# Altium integrated library TI_Logic_Specialty_Logic.IntLib: 2504 symbols (part 13 of 81)
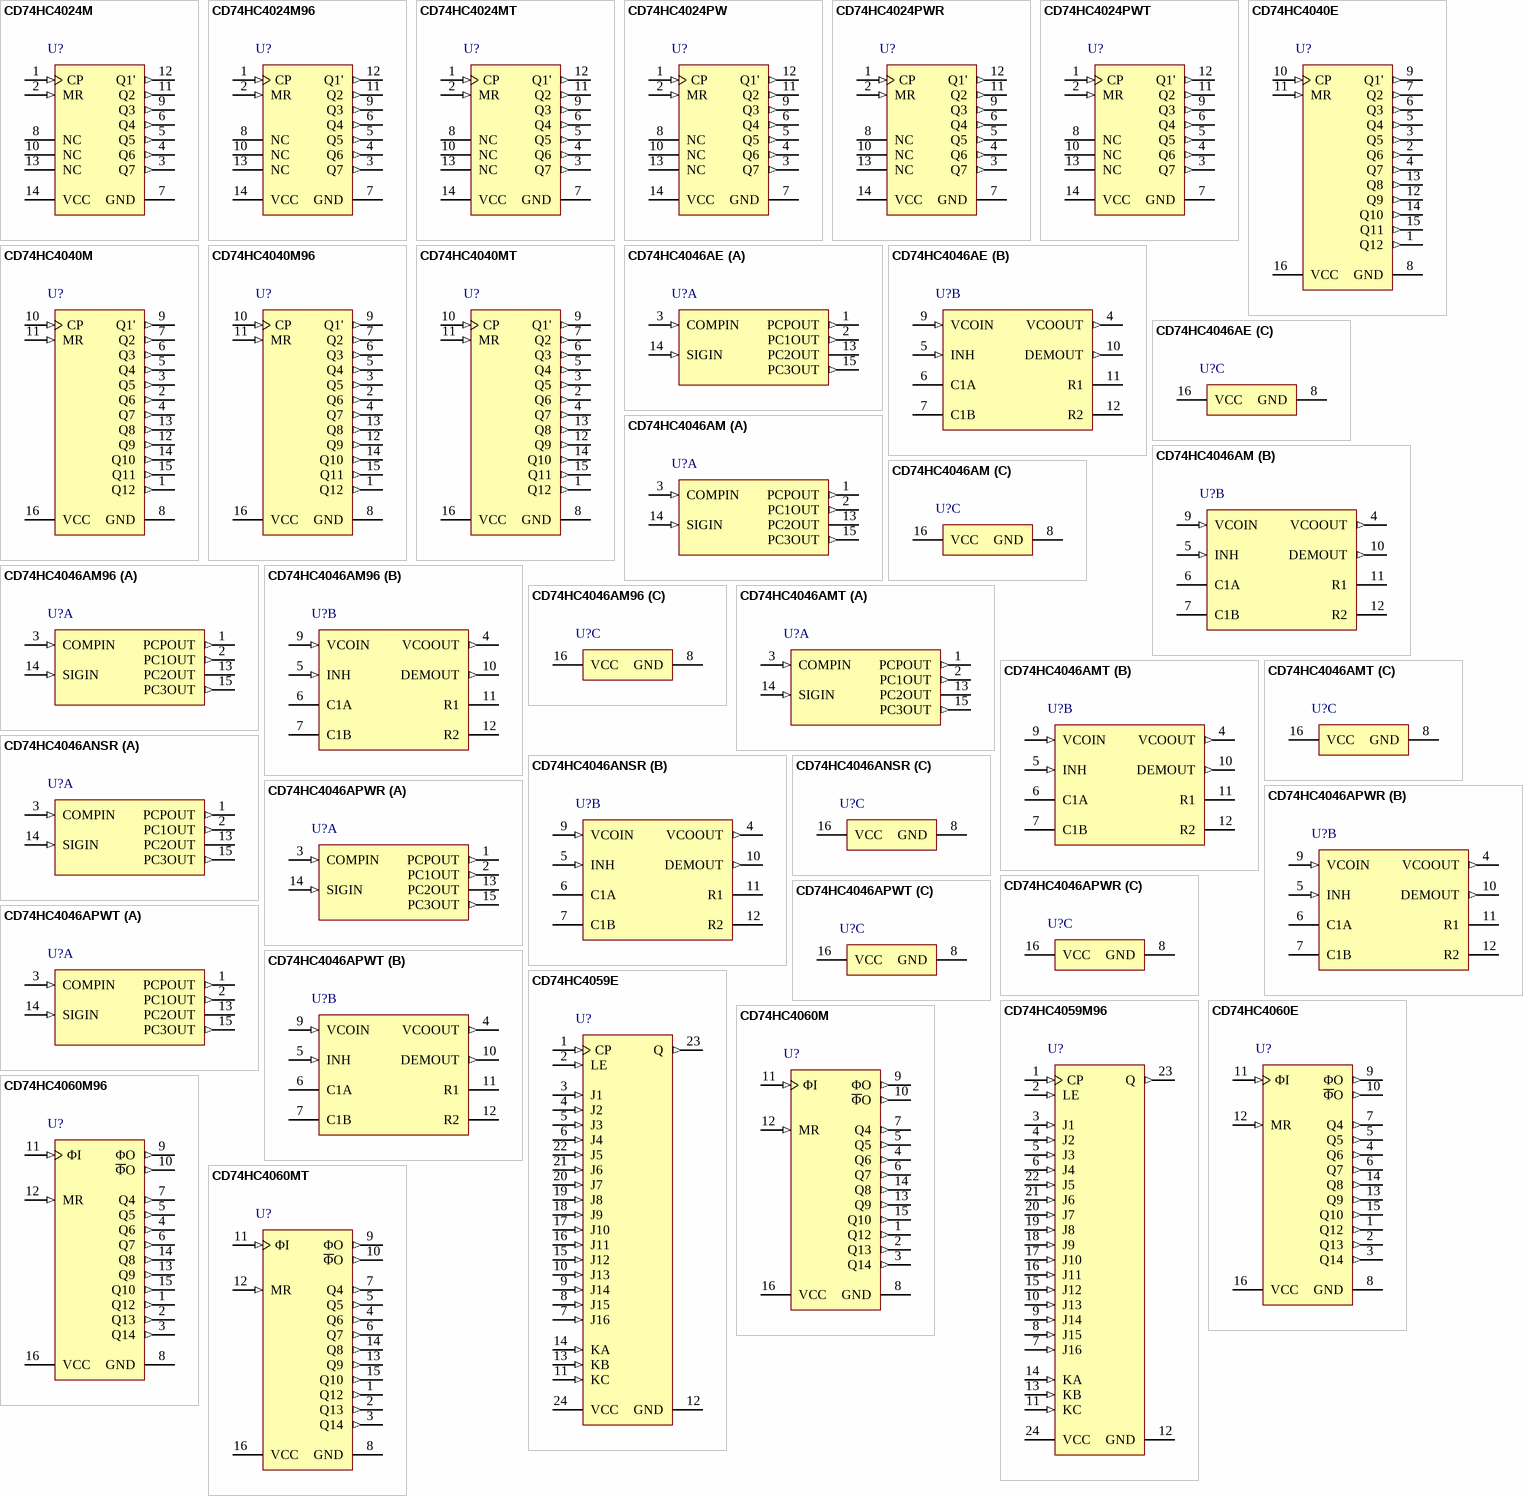
[diagram p116: symbols CD74HC4024M to CD74HC4060MT]

## CD74HC4046ANSR
designator U?
High Speed CMOS Logic Phase-Locked-Loop with VCO, NS0016A, LARGE T&R; Generic Part Number: CD74HC4046A; Manufacturer: Texas Instruments; PartNumber: CD74HC4046ANSR; VCC(Min)(V): 2; VCC(Max)(V): 6; ICC @ Nom Voltage(Max)(mA): 0.08; Bits(#): 1; F @ Nom Voltage(Max)(Mhz): 70; Rating: Catalog; Technology Family: HC; Voltage(Nom)(V): 3.3,5; Schmitt Trigger: No; Output Drive (IOL/IOH)(Max)(mA): 5.2/-5.2; tpd @ Nom Voltage(Max)(ns): 64; DatasheetVersion: SCHS204J; PackageReference: NS0016A; Supplier 1: Mouser; Supplier Part Number 1: 595-CD74HC4046ANSR; Supplier 2: Digi-Key; Supplier Part Number 2: 296-29115-2-ND; Supplier 3: Digi-Key; Supplier Part Number 3: 296-29115-1-ND; Supplier 4: Digi-Key; Supplier Part Number 4: 296-29115-6-ND; Output Type: CMOS; Input Type: CMOS; Operating Temperature Range(C): -55 to 125; ComponentLink1Description: Manufacturer URL; ComponentLink1URL: http://www.ti.com/; ComponentLink2Description: Datasheet; ComponentLink2URL: http://www.ti.com/lit/ds/symlink/cd74hc4046a.pdf
footprint NS0016A_N (SOIC,16-Leads,Body 10.5x5.6mm,Pitch 1.27mm,IPC Medium Density)
footprint NS0016A_M (SOIC,16-Leads,Body 10.5x5.6mm,Pitch 1.27mm,IPC Low Density)
footprint NS0016A_L (SOIC,16-Leads,Body 10.5x5.6mm,Pitch 1.27mm,IPC High Density)
part A pins: 1 PCPOUT (out) "Phase comparator pulse output", 2 PC1OUT (out) "Phase comparator 1 output", 3 COMPIN (in) "Comparator input", 13 PC2OUT (hiz) "Phase comparator 2 output", 14 SIGIN (in) "Signal input", 15 PC3OUT (out) "Phase comparator 3 output"
part B pins: 4 VCOOUT (out) "VCO output", 5 INH (in) "Inhibit input", 6 C1A "Capacitor C1 connection A", 7 C1B "Capacitor C1 connection B", 9 VCOIN (in) "VCO input", 10 DEMOUT (out) "Demodulator output", 11 R1 "Resistor R1 connection", 12 R2 "Resistor R2 connection"
part C pins: 8 GND (power) "Ground (0 V)", 16 VCC (power) "Positive supply voltage"

## CD74HC4046APWR
designator U?
High Speed CMOS Logic Phase-Locked-Loop with VCO, PW0016A, LARGE T&R; Generic Part Number: CD74HC4046A; Manufacturer: Texas Instruments; PartNumber: CD74HC4046APWR; VCC(Min)(V): 2; VCC(Max)(V): 6; ICC @ Nom Voltage(Max)(mA): 0.08; Bits(#): 1; F @ Nom Voltage(Max)(Mhz): 70; Rating: Catalog; Technology Family: HC; Voltage(Nom)(V): 3.3,5; Schmitt Trigger: No; Output Drive (IOL/IOH)(Max)(mA): 5.2/-5.2; tpd @ Nom Voltage(Max)(ns): 64; DatasheetVersion: SCHS204J; PackageReference: PW0016A; Supplier 1: Mouser; Supplier Part Number 1: 595-CD74HC4046APWR; Supplier 2: Digi-Key; Supplier Part Number 2: 296-9210-2-ND; Supplier 3: Digi-Key; Supplier Part Number 3: 296-9210-1-ND; Supplier 4: Digi-Key; Supplier Part Number 4: 296-9210-6-ND; Output Type: CMOS; Input Type: CMOS; Operating Temperature Range(C): -55 to 125; ComponentLink1Description: Manufacturer URL; ComponentLink1URL: http://www.ti.com/; ComponentLink2Description: Datasheet; ComponentLink2URL: http://www.ti.com/lit/ds/symlink/cd74hc4046a.pdf
footprint PW0016A_N (SOP, 16-Leads, Body 5.1x4.5mm, Pitch 0.65mm, IPC Medium Density)
footprint PW0016A_M (SOP, 16-Leads, Body 5.1x4.5mm, Pitch 0.65mm, IPC Low Density)
footprint PW0016A_L (SOP, 16-Leads, Body 5.1x4.5mm, Pitch 0.65mm, IPC High Density)
part A pins: 1 PCPOUT (out) "Phase comparator pulse output", 2 PC1OUT (out) "Phase comparator 1 output", 3 COMPIN (in) "Comparator input", 13 PC2OUT (hiz) "Phase comparator 2 output", 14 SIGIN (in) "Signal input", 15 PC3OUT (out) "Phase comparator 3 output"
part B pins: 4 VCOOUT (out) "VCO output", 5 INH (in) "Inhibit input", 6 C1A "Capacitor C1 connection A", 7 C1B "Capacitor C1 connection B", 9 VCOIN (in) "VCO input", 10 DEMOUT (out) "Demodulator output", 11 R1 "Resistor R1 connection", 12 R2 "Resistor R2 connection"
part C pins: 8 GND (power) "Ground (0 V)", 16 VCC (power) "Positive supply voltage"

## CD74HC4046APWT
designator U?
High Speed CMOS Logic Phase-Locked-Loop with VCO, PW0016A, SMALL T&R; Generic Part Number: CD74HC4046A; Manufacturer: Texas Instruments; PartNumber: CD74HC4046APWT; VCC(Min)(V): 2; VCC(Max)(V): 6; ICC @ Nom Voltage(Max)(mA): 0.08; Bits(#): 1; F @ Nom Voltage(Max)(Mhz): 70; Rating: Catalog; Technology Family: HC; Voltage(Nom)(V): 3.3,5; Schmitt Trigger: No; Output Drive (IOL/IOH)(Max)(mA): 5.2/-5.2; tpd @ Nom Voltage(Max)(ns): 64; DatasheetVersion: SCHS204J; PackageReference: PW0016A; Supplier 1: Mouser; Supplier Part Number 1: 595-CD74HC4046APWT; Supplier 2: Digi-Key; Supplier Part Number 2: CD74HC4046APWT-ND; Output Type: CMOS; Input Type: CMOS; Operating Temperature Range(C): -55 to 125; ComponentLink1Description: Manufacturer URL; ComponentLink1URL: http://www.ti.com/; ComponentLink2Description: Datasheet; ComponentLink2URL: http://www.ti.com/lit/ds/symlink/cd74hc4046a.pdf
footprint PW0016A_N (SOP, 16-Leads, Body 5.1x4.5mm, Pitch 0.65mm, IPC Medium Density)
footprint PW0016A_M (SOP, 16-Leads, Body 5.1x4.5mm, Pitch 0.65mm, IPC Low Density)
footprint PW0016A_L (SOP, 16-Leads, Body 5.1x4.5mm, Pitch 0.65mm, IPC High Density)
part A pins: 1 PCPOUT (out) "Phase comparator pulse output", 2 PC1OUT (out) "Phase comparator 1 output", 3 COMPIN (in) "Comparator input", 13 PC2OUT (hiz) "Phase comparator 2 output", 14 SIGIN (in) "Signal input", 15 PC3OUT (out) "Phase comparator 3 output"
part B pins: 4 VCOOUT (out) "VCO output", 5 INH (in) "Inhibit input", 6 C1A "Capacitor C1 connection A", 7 C1B "Capacitor C1 connection B", 9 VCOIN (in) "VCO input", 10 DEMOUT (out) "Demodulator output", 11 R1 "Resistor R1 connection", 12 R2 "Resistor R2 connection"
part C pins: 8 GND (power) "Ground (0 V)", 16 VCC (power) "Positive supply voltage"

## CD74HC4059E
designator U?
High Speed CMOS Logic CMOS Programmable Divide-by-N Counter, N0024A, TUBE; Generic Part Number: CD74HC4059; Manufacturer: Texas Instruments; PartNumber: CD74HC4059E; VCC(Min)(V): 2; VCC(Max)(V): 6; Inputs: 1; ICC @ Nom Voltage(Max)(mA): 0.08; Input Type: LVTTL/CMOS; F @ Nom Voltage(Max)(Mhz): 28; Rating: Catalog; Technology Family: HC; Voltage(Nom)(V): 3.3,5; Schmitt Trigger: No; Output Drive (IOL/IOH)(Max)(mA): 5.2/-5.2; tpd @ Nom Voltage(Max)(ns): 43; DatasheetVersion: SCHS206B; PackageReference: N0024A; Supplier 1: Mouser; Supplier Part Number 1: 595-CD74HC4059E; Supplier 2: Digi-Key; Supplier Part Number 2: 296-33086-5-ND; Output Type: CMOS; Function: Counter; Bits(#): 1; Operating Temperature Range(C): -55 to 125; Type: Other; Code_JEDEC: MS-011; ComponentLink1Description: Manufacturer URL; ComponentLink1URL: http://www.ti.com/; ComponentLink2Description: Datasheet; ComponentLink2URL: http://www.ti.com/lit/ds/symlink/cd74hc4059.pdf; ComponentLink3Description: Package Specification; ComponentLink3URL: http://www.ti.com/lit/ml/mpdi008/mpdi008.pdf
footprint N0024A (DIP, 24-Leads, Body 32.25x14.2mm, Pitch 2.54mm)
pins: 1 CP (in), 2 LE (in), 3 J1 (in), 4 J2 (in), 5 J3 (in), 6 J4 (in), 7 J16 (in), 8 J15 (in), 9 J14 (in), 10 J13 (in), 11 KC (in), 12 GND (power), 13 KB (in), 14 KA (in), 15 J12 (in), 16 J11 (in), 17 J10 (in), 18 J9 (in), 19 J8 (in), 20 J7 (in), 21 J6 (in), 22 J5 (in), 23 Q (out), 24 VCC (power)

## CD74HC4059M96
designator U?
High Speed CMOS Logic CMOS Programmable Divide-by-N Counter, DW0024A, LARGE T&R; Generic Part Number: CD74HC4059; Manufacturer: Texas Instruments; PartNumber: CD74HC4059M96; VCC(Min)(V): 2; VCC(Max)(V): 6; Inputs: 1; ICC @ Nom Voltage(Max)(mA): 0.08; Input Type: LVTTL/CMOS; F @ Nom Voltage(Max)(Mhz): 28; Rating: Catalog; Technology Family: HC; Voltage(Nom)(V): 3.3,5; Schmitt Trigger: No; Output Drive (IOL/IOH)(Max)(mA): 5.2/-5.2; tpd @ Nom Voltage(Max)(ns): 43; DatasheetVersion: SCHS206B; PackageReference: DW0024A; Supplier 1: Mouser; Supplier Part Number 1: 595-CD74HC4059M96; Supplier 2: Digi-Key; Supplier Part Number 2: 296-9221-2-ND; Supplier 3: Digi-Key; Supplier Part Number 3: 296-9221-1-ND; Supplier 4: Digi-Key; Supplier Part Number 4: 296-9221-6-ND; Output Type: CMOS; Function: Counter; Bits(#): 1; Operating Temperature Range(C): -55 to 125; Type: Other; Code_JEDEC: MS-013; ComponentLink1Description: Manufacturer URL; ComponentLink1URL: http://www.ti.com/; ComponentLink2Description: Datasheet; ComponentLink2URL: http://www.ti.com/lit/ds/symlink/cd74hc4059.pdf; ComponentLink3Description: Package Specification; ComponentLink3URL: http://www.ti.com/lit/ml/mpds174a/mpds174a.pdf
footprint DW0024A_N (SOIC, 24-Leads, Body 15.6x7.6mm, Pitch 1.27mm, IPC Medium Density)
footprint DW0024A_M (SOIC, 24-Leads, Body 15.6x7.6mm, Pitch 1.27mm, IPC Low Density)
footprint DW0024A_L (SOIC, 24-Leads, Body 15.6x7.6mm, Pitch 1.27mm, IPC High Density)
pins: 1 CP (in), 2 LE (in), 3 J1 (in), 4 J2 (in), 5 J3 (in), 6 J4 (in), 7 J16 (in), 8 J15 (in), 9 J14 (in), 10 J13 (in), 11 KC (in), 12 GND (power), 13 KB (in), 14 KA (in), 15 J12 (in), 16 J11 (in), 17 J10 (in), 18 J9 (in), 19 J8 (in), 20 J7 (in), 21 J6 (in), 22 J5 (in), 23 Q (out), 24 VCC (power)

## CD74HC4060E
designator U?
High Speed CMOS Logic 14-Stage Binary Counter with Oscillator, N0016A, TUBE; Generic Part Number: CD74HC4060; Manufacturer: Texas Instruments; PartNumber: CD74HC4060E; VCC(Min)(V): 2; VCC(Max)(V): 6; Inputs: 1; ICC @ Nom Voltage(Max)(mA): 0.08; Input Type: LVTTL/CMOS; Bits(#): 14; F @ Nom Voltage(Max)(Mhz): 28; Rating: Catalog; Technology Family: HC; Voltage(Nom)(V): 3.3,5; Schmitt Trigger: No; Output Drive (IOL/IOH)(Max)(mA): 5.2/-5.2; tpd @ Nom Voltage(Max)(ns): 64; DatasheetVersion: SCHS207G; PackageReference: N0016A; Supplier 1: Mouser; Supplier Part Number 1: 595-CD74HC4060E; Supplier 2: Digi-Key; Supplier Part Number 2: 296-25998-5-ND; Output Type: CMOS; Function: Counter; Operating Temperature Range(C): -55 to 125; Type: Binary; Code_JEDEC: MS-001; ComponentLink1Description: Manufacturer URL; ComponentLink1URL: http://www.ti.com/; ComponentLink2Description: Datasheet; ComponentLink2URL: http://www.ti.com/lit/ds/symlink/cd74hc4060.pdf; ComponentLink3Description: Package Specification; ComponentLink3URL: http://www.ti.com/lit/ml/mpdi002c/mpdi002c.pdf
footprint N0016A (DIP, 16-Leads, Body 19.7x6.6mm, Pitch 2.54mm)
pins: 1 Q12 (out), 2 Q13 (out), 3 Q14 (out), 4 Q6 (out), 5 Q5 (out), 6 Q7 (out), 7 Q4 (out), 8 GND (power), 9 ΦO (out), 10 ~{Φ}O (out), 11 ΦI (in), 12 MR (in), 13 Q9 (out), 14 Q8 (out), 15 Q10 (out), 16 VCC (power)

## CD74HC4060M
designator U?
High Speed CMOS Logic 14-Stage Binary Counter with Oscillator, D0016A, TUBE; Generic Part Number: CD74HC4060; Manufacturer: Texas Instruments; PartNumber: CD74HC4060M; VCC(Min)(V): 2; VCC(Max)(V): 6; Inputs: 1; ICC @ Nom Voltage(Max)(mA): 0.08; Input Type: LVTTL/CMOS; Bits(#): 14; F @ Nom Voltage(Max)(Mhz): 28; Rating: Catalog; Technology Family: HC; Voltage(Nom)(V): 3.3,5; Schmitt Trigger: No; Output Drive (IOL/IOH)(Max)(mA): 5.2/-5.2; tpd @ Nom Voltage(Max)(ns): 64; DatasheetVersion: SCHS207G; PackageReference: D0016A; Supplier 1: Mouser; Supplier Part Number 1: 595-CD74HC4060M; Supplier 2: Digi-Key; Supplier Part Number 2: 296-9222-5-ND; Output Type: CMOS; Function: Counter; Operating Temperature Range(C): -55 to 125; Type: Binary; Code_JEDEC: MS-012 variation AC; ComponentLink1Description: Manufacturer URL; ComponentLink1URL: http://www.ti.com/; ComponentLink2Description: Datasheet; ComponentLink2URL: http://www.ti.com/lit/ds/symlink/cd74hc4060.pdf; ComponentLink3Description: Package Specification; ComponentLink3URL: http://www.ti.com/lit/ml/mpds178g/mpds178g.pdf
footprint D0016A_N (SOIC, 16-Leads, Body 10x4mm, Pitch 1.27mm, IPC Medium Density)
footprint D0016A_M (SOIC, 16-Leads, Body 10x4mm, Pitch 1.27mm, IPC Low Density)
footprint D0016A_L (SOIC, 16-Leads, Body 10x4mm, Pitch 1.27mm, IPC High Density)
pins: 1 Q12 (out), 2 Q13 (out), 3 Q14 (out), 4 Q6 (out), 5 Q5 (out), 6 Q7 (out), 7 Q4 (out), 8 GND (power), 9 ΦO (out), 10 ~{Φ}O (out), 11 ΦI (in), 12 MR (in), 13 Q9 (out), 14 Q8 (out), 15 Q10 (out), 16 VCC (power)

## CD74HC4060M96
designator U?
High Speed CMOS Logic 14-Stage Binary Counter with Oscillator, D0016A, LARGE T&R; Generic Part Number: CD74HC4060; Manufacturer: Texas Instruments; PartNumber: CD74HC4060M96; VCC(Min)(V): 2; VCC(Max)(V): 6; Inputs: 1; ICC @ Nom Voltage(Max)(mA): 0.08; Input Type: LVTTL/CMOS; Bits(#): 14; F @ Nom Voltage(Max)(Mhz): 28; Rating: Catalog; Technology Family: HC; Voltage(Nom)(V): 3.3,5; Schmitt Trigger: No; Output Drive (IOL/IOH)(Max)(mA): 5.2/-5.2; tpd @ Nom Voltage(Max)(ns): 64; DatasheetVersion: SCHS207G; PackageReference: D0016A; Supplier 1: Mouser; Supplier Part Number 1: 595-CD74HC4060M96; Supplier 2: Digi-Key; Supplier Part Number 2: 296-25999-2-ND; Supplier 3: Digi-Key; Supplier Part Number 3: 296-25999-1-ND; Supplier 4: Digi-Key; Supplier Part Number 4: 296-25999-6-ND; Output Type: CMOS; Function: Counter; Operating Temperature Range(C): -55 to 125; Type: Binary; Code_JEDEC: MS-012 variation AC; ComponentLink1Description: Manufacturer URL; ComponentLink1URL: http://www.ti.com/; ComponentLink2Description: Datasheet; ComponentLink2URL: http://www.ti.com/lit/ds/symlink/cd74hc4060.pdf; ComponentLink3Description: Package Specification; ComponentLink3URL: http://www.ti.com/lit/ml/mpds178g/mpds178g.pdf
footprint D0016A_N (SOIC, 16-Leads, Body 10x4mm, Pitch 1.27mm, IPC Medium Density)
footprint D0016A_M (SOIC, 16-Leads, Body 10x4mm, Pitch 1.27mm, IPC Low Density)
footprint D0016A_L (SOIC, 16-Leads, Body 10x4mm, Pitch 1.27mm, IPC High Density)
pins: 1 Q12 (out), 2 Q13 (out), 3 Q14 (out), 4 Q6 (out), 5 Q5 (out), 6 Q7 (out), 7 Q4 (out), 8 GND (power), 9 ΦO (out), 10 ~{Φ}O (out), 11 ΦI (in), 12 MR (in), 13 Q9 (out), 14 Q8 (out), 15 Q10 (out), 16 VCC (power)

## CD74HC4060MT
designator U?
High Speed CMOS Logic 14-Stage Binary Counter with Oscillator, D0016A, SMALL T&R; Generic Part Number: CD74HC4060; Manufacturer: Texas Instruments; PartNumber: CD74HC4060MT; VCC(Min)(V): 2; VCC(Max)(V): 6; Inputs: 1; ICC @ Nom Voltage(Max)(mA): 0.08; Input Type: LVTTL/CMOS; Bits(#): 14; F @ Nom Voltage(Max)(Mhz): 28; Rating: Catalog; Technology Family: HC; Voltage(Nom)(V): 3.3,5; Schmitt Trigger: No; Output Drive (IOL/IOH)(Max)(mA): 5.2/-5.2; tpd @ Nom Voltage(Max)(ns): 64; DatasheetVersion: SCHS207G; PackageReference: D0016A; Supplier 1: Mouser; Supplier Part Number 1: 595-CD74HC4060MT; Supplier 2: Digi-Key; Supplier Part Number 2: CD74HC4060MT-ND; Output Type: CMOS; Function: Counter; Operating Temperature Range(C): -55 to 125; Type: Binary; Code_JEDEC: MS-012 variation AC; ComponentLink1Description: Manufacturer URL; ComponentLink1URL: http://www.ti.com/; ComponentLink2Description: Datasheet; ComponentLink2URL: http://www.ti.com/lit/ds/symlink/cd74hc4060.pdf; ComponentLink3Description: Package Specification; ComponentLink3URL: http://www.ti.com/lit/ml/mpds178g/mpds178g.pdf
footprint D0016A_N (SOIC, 16-Leads, Body 10x4mm, Pitch 1.27mm, IPC Medium Density)
footprint D0016A_M (SOIC, 16-Leads, Body 10x4mm, Pitch 1.27mm, IPC Low Density)
footprint D0016A_L (SOIC, 16-Leads, Body 10x4mm, Pitch 1.27mm, IPC High Density)
pins: 1 Q12 (out), 2 Q13 (out), 3 Q14 (out), 4 Q6 (out), 5 Q5 (out), 6 Q7 (out), 7 Q4 (out), 8 GND (power), 9 ΦO (out), 10 ~{Φ}O (out), 11 ΦI (in), 12 MR (in), 13 Q9 (out), 14 Q8 (out), 15 Q10 (out), 16 VCC (power)

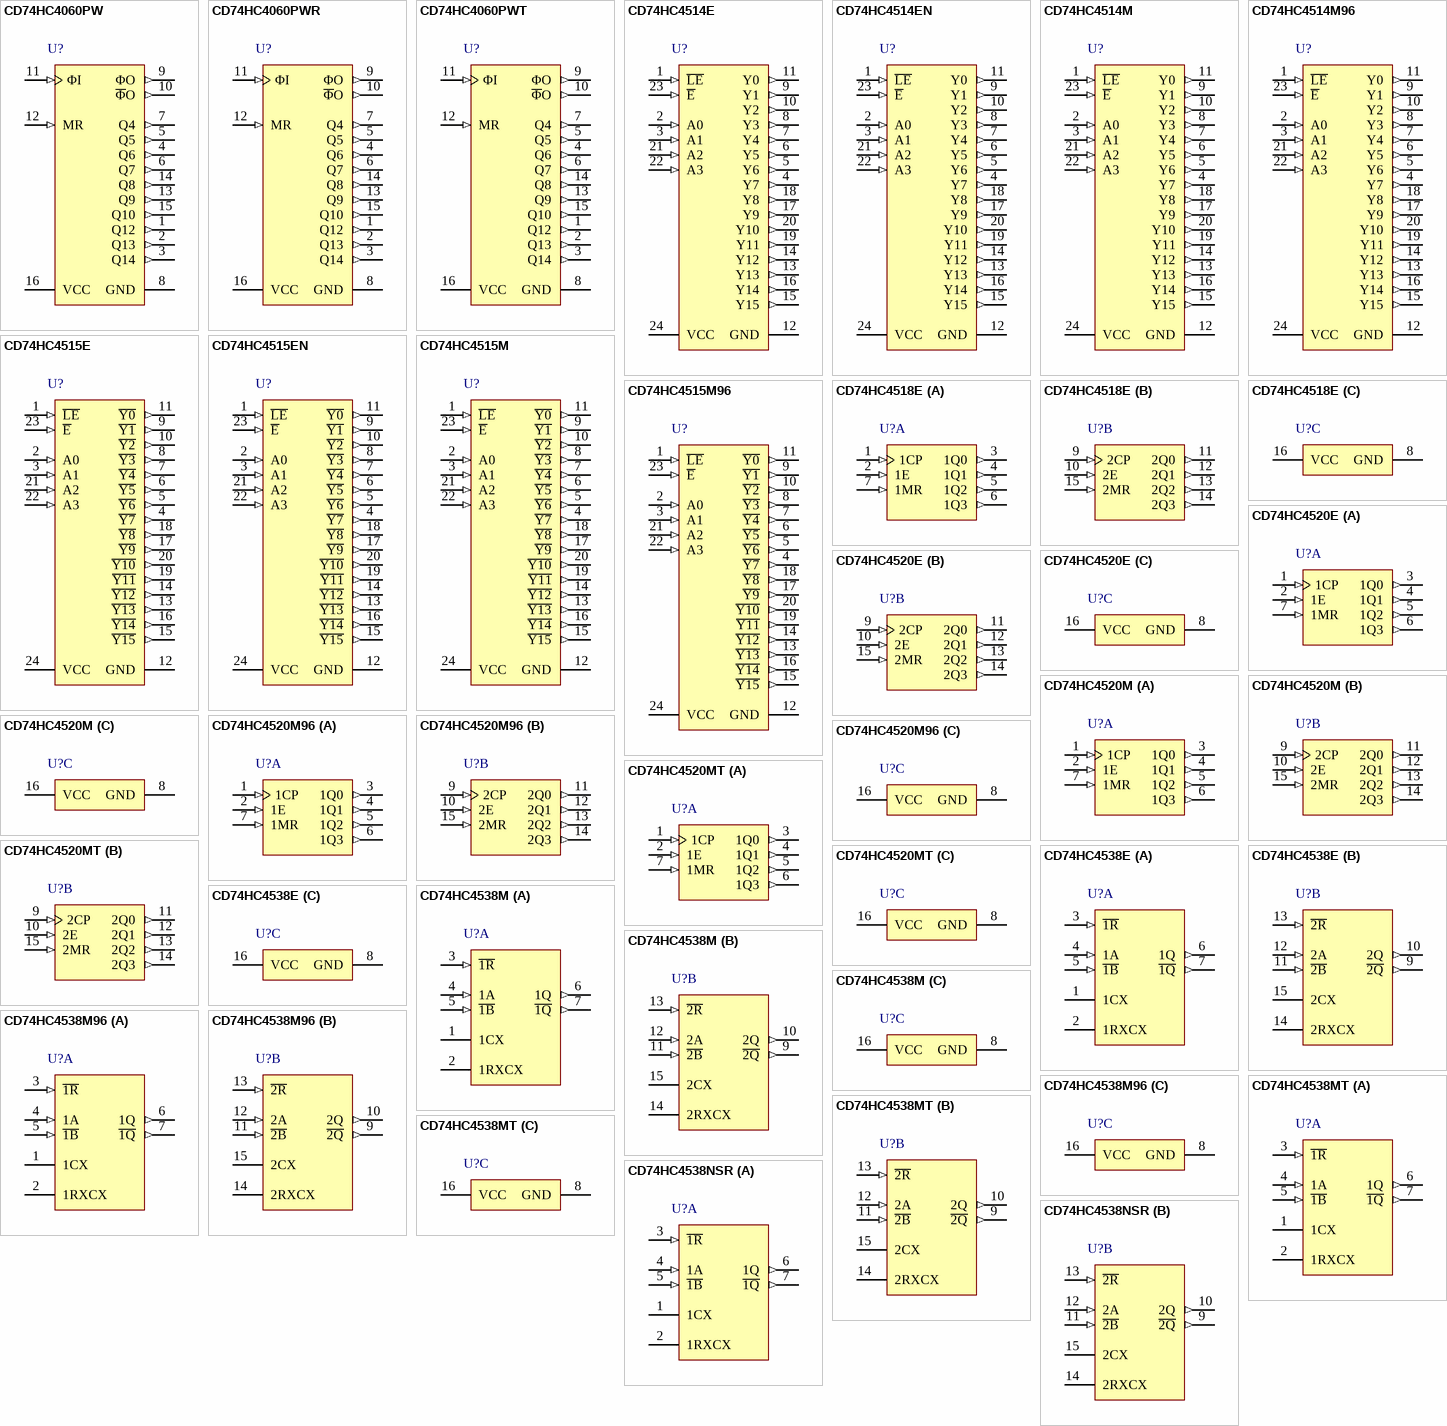
[diagram p16: symbols CD74HC4060PW to CD74HC4538NSR]

## CD74HC4060PW
designator U?
High Speed CMOS Logic 14-Stage Binary Counter with Oscillator, PW0016A, TUBE; Generic Part Number: CD74HC4060; Manufacturer: Texas Instruments; PartNumber: CD74HC4060PW; VCC(Min)(V): 2; VCC(Max)(V): 6; Inputs: 1; ICC @ Nom Voltage(Max)(mA): 0.08; Input Type: LVTTL/CMOS; Bits(#): 14; F @ Nom Voltage(Max)(Mhz): 28; Rating: Catalog; Technology Family: HC; Voltage(Nom)(V): 3.3,5; Schmitt Trigger: No; Output Drive (IOL/IOH)(Max)(mA): 5.2/-5.2; tpd @ Nom Voltage(Max)(ns): 64; DatasheetVersion: SCHS207G; PackageReference: PW0016A; Supplier 1: Mouser; Supplier Part Number 1: 595-CD74HC4060PW; Supplier 2: Digi-Key; Supplier Part Number 2: 296-26000-5-ND; Output Type: CMOS; Function: Counter; Operating Temperature Range(C): -55 to 125; Type: Binary; Code_JEDEC: MO-153; ComponentLink1Description: Manufacturer URL; ComponentLink1URL: http://www.ti.com/; ComponentLink2Description: Datasheet; ComponentLink2URL: http://www.ti.com/lit/ds/symlink/cd74hc4060.pdf; ComponentLink3Description: Package Specification; ComponentLink3URL: http://www.ti.com/lit/ml/mpds361/mpds361.pdf
footprint PW0016A_N (SOP, 16-Leads, Body 5.1x4.5mm, Pitch 0.65mm, IPC Medium Density)
footprint PW0016A_M (SOP, 16-Leads, Body 5.1x4.5mm, Pitch 0.65mm, IPC Low Density)
footprint PW0016A_L (SOP, 16-Leads, Body 5.1x4.5mm, Pitch 0.65mm, IPC High Density)
pins: 1 Q12 (out), 2 Q13 (out), 3 Q14 (out), 4 Q6 (out), 5 Q5 (out), 6 Q7 (out), 7 Q4 (out), 8 GND (power), 9 ΦO (out), 10 ~{Φ}O (out), 11 ΦI (in), 12 MR (in), 13 Q9 (out), 14 Q8 (out), 15 Q10 (out), 16 VCC (power)

## CD74HC4060PWR
designator U?
High Speed CMOS Logic 14-Stage Binary Counter with Oscillator, PW0016A, LARGE T&R; Generic Part Number: CD74HC4060; Manufacturer: Texas Instruments; PartNumber: CD74HC4060PWR; VCC(Min)(V): 2; VCC(Max)(V): 6; Inputs: 1; ICC @ Nom Voltage(Max)(mA): 0.08; Input Type: LVTTL/CMOS; Bits(#): 14; F @ Nom Voltage(Max)(Mhz): 28; Rating: Catalog; Technology Family: HC; Voltage(Nom)(V): 3.3,5; Schmitt Trigger: No; Output Drive (IOL/IOH)(Max)(mA): 5.2/-5.2; tpd @ Nom Voltage(Max)(ns): 64; DatasheetVersion: SCHS207G; PackageReference: PW0016A; Supplier 1: Mouser; Supplier Part Number 1: 595-CD74HC4060PWR; Supplier 2: Digi-Key; Supplier Part Number 2: 296-31594-2-ND; Supplier 3: Digi-Key; Supplier Part Number 3: 296-31594-1-ND; Supplier 4: Digi-Key; Supplier Part Number 4: 296-31594-6-ND; Output Type: CMOS; Function: Counter; Operating Temperature Range(C): -55 to 125; Type: Binary; Code_JEDEC: MO-153; ComponentLink1Description: Manufacturer URL; ComponentLink1URL: http://www.ti.com/; ComponentLink2Description: Datasheet; ComponentLink2URL: http://www.ti.com/lit/ds/symlink/cd74hc4060.pdf; ComponentLink3Description: Package Specification; ComponentLink3URL: http://www.ti.com/lit/ml/mpds361/mpds361.pdf
footprint PW0016A_N (SOP, 16-Leads, Body 5.1x4.5mm, Pitch 0.65mm, IPC Medium Density)
footprint PW0016A_M (SOP, 16-Leads, Body 5.1x4.5mm, Pitch 0.65mm, IPC Low Density)
footprint PW0016A_L (SOP, 16-Leads, Body 5.1x4.5mm, Pitch 0.65mm, IPC High Density)
pins: 1 Q12 (out), 2 Q13 (out), 3 Q14 (out), 4 Q6 (out), 5 Q5 (out), 6 Q7 (out), 7 Q4 (out), 8 GND (power), 9 ΦO (out), 10 ~{Φ}O (out), 11 ΦI (in), 12 MR (in), 13 Q9 (out), 14 Q8 (out), 15 Q10 (out), 16 VCC (power)

## CD74HC4060PWT
designator U?
High Speed CMOS Logic 14-Stage Binary Counter with Oscillator, PW0016A, SMALL T&R; Generic Part Number: CD74HC4060; Manufacturer: Texas Instruments; PartNumber: CD74HC4060PWT; VCC(Min)(V): 2; VCC(Max)(V): 6; Inputs: 1; ICC @ Nom Voltage(Max)(mA): 0.08; Input Type: LVTTL/CMOS; Bits(#): 14; F @ Nom Voltage(Max)(Mhz): 28; Rating: Catalog; Technology Family: HC; Voltage(Nom)(V): 3.3,5; Schmitt Trigger: No; Output Drive (IOL/IOH)(Max)(mA): 5.2/-5.2; tpd @ Nom Voltage(Max)(ns): 64; DatasheetVersion: SCHS207G; PackageReference: PW0016A; Supplier 1: Mouser; Supplier Part Number 1: 595-CD74HC4060PWT; Supplier 2: Digi-Key; Supplier Part Number 2: CD74HC4060PWT-ND; Output Type: CMOS; Function: Counter; Operating Temperature Range(C): -55 to 125; Type: Binary; Code_JEDEC: MO-153; ComponentLink1Description: Manufacturer URL; ComponentLink1URL: http://www.ti.com/; ComponentLink2Description: Datasheet; ComponentLink2URL: http://www.ti.com/lit/ds/symlink/cd74hc4060.pdf; ComponentLink3Description: Package Specification; ComponentLink3URL: http://www.ti.com/lit/ml/mpds361/mpds361.pdf
footprint PW0016A_N (SOP, 16-Leads, Body 5.1x4.5mm, Pitch 0.65mm, IPC Medium Density)
footprint PW0016A_M (SOP, 16-Leads, Body 5.1x4.5mm, Pitch 0.65mm, IPC Low Density)
footprint PW0016A_L (SOP, 16-Leads, Body 5.1x4.5mm, Pitch 0.65mm, IPC High Density)
pins: 1 Q12 (out), 2 Q13 (out), 3 Q14 (out), 4 Q6 (out), 5 Q5 (out), 6 Q7 (out), 7 Q4 (out), 8 GND (power), 9 ΦO (out), 10 ~{Φ}O (out), 11 ΦI (in), 12 MR (in), 13 Q9 (out), 14 Q8 (out), 15 Q10 (out), 16 VCC (power)

## CD74HC4514E
designator U?
High Speed CMOS Logic 4-to-16 Line Decoder/Demultiplexer with Input Latches, N0024A, TUBE; Generic Part Number: CD74HC4514; Manufacturer: Texas Instruments; PartNumber: CD74HC4514E; VCC(Min)(V): 2; VCC(Max)(V): 6; ICC @ Nom Voltage(Max)(mA): 0.08; Input Type: LVTTL/CMOS; Bits(#): 16; F @ Nom Voltage(Max)(Mhz): 28; Configuration: 4：16; Channels(#): 1; Rating: Catalog; Technology Family: HC; Voltage(Nom)(V): 3.3,5; Schmitt Trigger: No; Output Drive (IOL/IOH)(Max)(mA): 5.2/-5.2; tpd @ Nom Voltage(Max)(ns): 23; DatasheetVersion: SCHS280C; PackageReference: N0024A; Supplier 1: Mouser; Supplier Part Number 1: 595-CD74HC4514E; Supplier 2: Digi-Key; Supplier Part Number 2: 296-33097-5-ND; Output Type: CMOS; Function: Decoder/Demultiplexer; Operating Temperature Range(C): -55 to 125; Type: Standard; Code_JEDEC: MS-011; ComponentLink1Description: Manufacturer URL; ComponentLink1URL: http://www.ti.com/; ComponentLink2Description: Datasheet; ComponentLink2URL: http://www.ti.com/lit/ds/symlink/cd74hc4514.pdf; ComponentLink3Description: Package Specification; ComponentLink3URL: http://www.ti.com/lit/ml/mpdi008/mpdi008.pdf
footprint N0024A (DIP, 24-Leads, Body 32.25x14.2mm, Pitch 2.54mm)
pins: 1 ~{LE} (in), 2 A0 (in), 3 A1 (in), 4 Y7 (out), 5 Y6 (out), 6 Y5 (out), 7 Y4 (out), 8 Y3 (out), 9 Y1 (out), 10 Y2 (out), 11 Y0 (out), 12 GND (power), 13 Y13 (out), 14 Y12 (out), 15 Y15 (out), 16 Y14 (out), 17 Y9 (out), 18 Y8 (out), 19 Y11 (out), 20 Y10 (out), 21 A2 (in), 22 A3 (in), 23 ~{E} (in), 24 VCC (power)

## CD74HC4514EN
designator U?
High Speed CMOS Logic 4-to-16 Line Decoder/Demultiplexer with Input Latches, NT0024A, TUBE; Generic Part Number: CD74HC4514; Manufacturer: Texas Instruments; PartNumber: CD74HC4514EN; VCC(Min)(V): 2; VCC(Max)(V): 6; ICC @ Nom Voltage(Max)(mA): 0.08; Input Type: LVTTL/CMOS; Bits(#): 16; F @ Nom Voltage(Max)(Mhz): 28; Configuration: 4：16; Channels(#): 1; Rating: Catalog; Technology Family: HC; Voltage(Nom)(V): 3.3,5; Schmitt Trigger: No; Output Drive (IOL/IOH)(Max)(mA): 5.2/-5.2; tpd @ Nom Voltage(Max)(ns): 23; DatasheetVersion: SCHS280C; PackageReference: NT0024A; Supplier 1: Mouser; Supplier Part Number 1: 595-CD74HC4514EN; Supplier 2: Digi-Key; Supplier Part Number 2: 296-33098-5-ND; Output Type: CMOS; Function: Decoder/Demultiplexer; Operating Temperature Range(C): -55 to 125; Type: Standard; ComponentLink1Description: Manufacturer URL; ComponentLink1URL: http://www.ti.com/; ComponentLink2Description: Datasheet; ComponentLink2URL: http://www.ti.com/lit/ds/symlink/cd74hc4514.pdf; ComponentLink3Description: Package Specification; ComponentLink3URL: http://www.ti.com/lit/ml/mpdi004a/mpdi004a.pdf
footprint NT0024A (DIP, 24-Leads, Body 32.05x7.1mm, Pitch 2.54mm)
pins: 1 ~{LE} (in), 2 A0 (in), 3 A1 (in), 4 Y7 (out), 5 Y6 (out), 6 Y5 (out), 7 Y4 (out), 8 Y3 (out), 9 Y1 (out), 10 Y2 (out), 11 Y0 (out), 12 GND (power), 13 Y13 (out), 14 Y12 (out), 15 Y15 (out), 16 Y14 (out), 17 Y9 (out), 18 Y8 (out), 19 Y11 (out), 20 Y10 (out), 21 A2 (in), 22 A3 (in), 23 ~{E} (in), 24 VCC (power)

## CD74HC4514M
designator U?
High Speed CMOS Logic 4-to-16 Line Decoder/Demultiplexer with Input Latches, DW0024A, TUBE; Generic Part Number: CD74HC4514; Manufacturer: Texas Instruments; PartNumber: CD74HC4514M; VCC(Min)(V): 2; VCC(Max)(V): 6; ICC @ Nom Voltage(Max)(mA): 0.08; Input Type: LVTTL/CMOS; Bits(#): 16; F @ Nom Voltage(Max)(Mhz): 28; Configuration: 4：16; Channels(#): 1; Rating: Catalog; Technology Family: HC; Voltage(Nom)(V): 3.3,5; Schmitt Trigger: No; Output Drive (IOL/IOH)(Max)(mA): 5.2/-5.2; tpd @ Nom Voltage(Max)(ns): 23; DatasheetVersion: SCHS280C; PackageReference: DW0024A; Supplier 1: Mouser; Supplier Part Number 1: 595-CD74HC4514M; Supplier 2: Digi-Key; Supplier Part Number 2: 296-33099-5-ND; Output Type: CMOS; Function: Decoder/Demultiplexer; Operating Temperature Range(C): -55 to 125; Type: Standard; Code_JEDEC: MS-013; ComponentLink1Description: Manufacturer URL; ComponentLink1URL: http://www.ti.com/; ComponentLink2Description: Datasheet; ComponentLink2URL: http://www.ti.com/lit/ds/symlink/cd74hc4514.pdf; ComponentLink3Description: Package Specification; ComponentLink3URL: http://www.ti.com/lit/ml/mpds174a/mpds174a.pdf
footprint DW0024A_N (SOIC, 24-Leads, Body 15.6x7.6mm, Pitch 1.27mm, IPC Medium Density)
footprint DW0024A_M (SOIC, 24-Leads, Body 15.6x7.6mm, Pitch 1.27mm, IPC Low Density)
footprint DW0024A_L (SOIC, 24-Leads, Body 15.6x7.6mm, Pitch 1.27mm, IPC High Density)
pins: 1 ~{LE} (in), 2 A0 (in), 3 A1 (in), 4 Y7 (out), 5 Y6 (out), 6 Y5 (out), 7 Y4 (out), 8 Y3 (out), 9 Y1 (out), 10 Y2 (out), 11 Y0 (out), 12 GND (power), 13 Y13 (out), 14 Y12 (out), 15 Y15 (out), 16 Y14 (out), 17 Y9 (out), 18 Y8 (out), 19 Y11 (out), 20 Y10 (out), 21 A2 (in), 22 A3 (in), 23 ~{E} (in), 24 VCC (power)

## CD74HC4514M96
designator U?
High Speed CMOS Logic 4-to-16 Line Decoder/Demultiplexer with Input Latches, DW0024A, LARGE T&R; Generic Part Number: CD74HC4514; Manufacturer: Texas Instruments; PartNumber: CD74HC4514M96; VCC(Min)(V): 2; VCC(Max)(V): 6; ICC @ Nom Voltage(Max)(mA): 0.08; Input Type: LVTTL/CMOS; Bits(#): 16; F @ Nom Voltage(Max)(Mhz): 28; Configuration: 4：16; Channels(#): 1; Rating: Catalog; Technology Family: HC; Voltage(Nom)(V): 3.3,5; Schmitt Trigger: No; Output Drive (IOL/IOH)(Max)(mA): 5.2/-5.2; tpd @ Nom Voltage(Max)(ns): 23; DatasheetVersion: SCHS280C; PackageReference: DW0024A; Supplier 1: Mouser; Supplier Part Number 1: 595-CD74HC4514M96; Supplier 2: Digi-Key; Supplier Part Number 2: 296-29484-2-ND; Supplier 3: Digi-Key; Supplier Part Number 3: 296-29484-1-ND; Supplier 4: Digi-Key; Supplier Part Number 4: 296-29484-6-ND; Output Type: CMOS; Function: Decoder/Demultiplexer; Operating Temperature Range(C): -55 to 125; Type: Standard; Code_JEDEC: MS-013; ComponentLink1Description: Manufacturer URL; ComponentLink1URL: http://www.ti.com/; ComponentLink2Description: Datasheet; ComponentLink2URL: http://www.ti.com/lit/ds/symlink/cd74hc4514.pdf; ComponentLink3Description: Package Specification; ComponentLink3URL: http://www.ti.com/lit/ml/mpds174a/mpds174a.pdf
footprint DW0024A_N (SOIC, 24-Leads, Body 15.6x7.6mm, Pitch 1.27mm, IPC Medium Density)
footprint DW0024A_M (SOIC, 24-Leads, Body 15.6x7.6mm, Pitch 1.27mm, IPC Low Density)
footprint DW0024A_L (SOIC, 24-Leads, Body 15.6x7.6mm, Pitch 1.27mm, IPC High Density)
pins: 1 ~{LE} (in), 2 A0 (in), 3 A1 (in), 4 Y7 (out), 5 Y6 (out), 6 Y5 (out), 7 Y4 (out), 8 Y3 (out), 9 Y1 (out), 10 Y2 (out), 11 Y0 (out), 12 GND (power), 13 Y13 (out), 14 Y12 (out), 15 Y15 (out), 16 Y14 (out), 17 Y9 (out), 18 Y8 (out), 19 Y11 (out), 20 Y10 (out), 21 A2 (in), 22 A3 (in), 23 ~{E} (in), 24 VCC (power)

## CD74HC4515E
designator U?
High Speed CMOS Logic 4-to-16 Line Decoder/Demultiplexer with Input Latches, N0024A, TUBE; Generic Part Number: CD74HC4515; Manufacturer: Texas Instruments; PartNumber: CD74HC4515E; VCC(Min)(V): 2; VCC(Max)(V): 6; ICC @ Nom Voltage(Max)(mA): 0.08; Input Type: LVTTL/CMOS; Bits(#): 16; F @ Nom Voltage(Max)(Mhz): 28; Configuration: 4：16; Channels(#): 1; Rating: Catalog; Technology Family: HC; Voltage(Nom)(V): 3.3,5; Schmitt Trigger: No; Output Drive (IOL/IOH)(Max)(mA): 5.2/-5.2; tpd @ Nom Voltage(Max)(ns): 23; DatasheetVersion: SCHS280C; PackageReference: N0024A; Supplier 1: Mouser; Supplier Part Number 1: 595-CD74HC4515E; Supplier 2: Digi-Key; Supplier Part Number 2: 296-33100-5-ND; Output Type: CMOS; Function: Decoder/Demultiplexer; Operating Temperature Range(C): -55 to 125; Type: Standard; Code_JEDEC: MS-011; ComponentLink1Description: Manufacturer URL; ComponentLink1URL: http://www.ti.com/; ComponentLink2Description: Datasheet; ComponentLink2URL: http://www.ti.com/lit/ds/symlink/cd74hc4515.pdf; ComponentLink3Description: Package Specification; ComponentLink3URL: http://www.ti.com/lit/ml/mpdi008/mpdi008.pdf
footprint N0024A (DIP, 24-Leads, Body 32.25x14.2mm, Pitch 2.54mm)
pins: 1 ~{LE} (in), 2 A0 (in), 3 A1 (in), 4 ~{Y7} (out), 5 ~{Y6} (out), 6 ~{Y5} (out), 7 ~{Y4} (out), 8 ~{Y3} (out), 9 ~{Y1} (out), 10 ~{Y2} (out), 11 ~{Y0} (out), 12 GND (power), 13 ~{Y13} (out), 14 ~{Y12} (out), 15 ~{Y15} (out), 16 ~{Y14} (out), 17 ~{Y9} (out), 18 ~{Y8} (out), 19 ~{Y11} (out), 20 ~{Y10} (out), 21 A2 (in), 22 A3 (in), 23 ~{E} (in), 24 VCC (power)

## CD74HC4515EN
designator U?
High Speed CMOS Logic 4-to-16 Line Decoder/Demultiplexer with Input Latches, NT0024A, TUBE; Generic Part Number: CD74HC4515; Manufacturer: Texas Instruments; PartNumber: CD74HC4515EN; VCC(Min)(V): 2; VCC(Max)(V): 6; ICC @ Nom Voltage(Max)(mA): 0.08; Input Type: LVTTL/CMOS; Bits(#): 16; F @ Nom Voltage(Max)(Mhz): 28; Configuration: 4：16; Channels(#): 1; Rating: Catalog; Technology Family: HC; Voltage(Nom)(V): 3.3,5; Schmitt Trigger: No; Output Drive (IOL/IOH)(Max)(mA): 5.2/-5.2; tpd @ Nom Voltage(Max)(ns): 23; DatasheetVersion: SCHS280C; PackageReference: NT0024A; Supplier 1: Mouser; Supplier Part Number 1: 595-CD74HC4515EN; Supplier 2: Digi-Key; Supplier Part Number 2: 296-33101-5-ND; Output Type: CMOS; Function: Decoder/Demultiplexer; Operating Temperature Range(C): -55 to 125; Type: Standard; ComponentLink1Description: Manufacturer URL; ComponentLink1URL: http://www.ti.com/; ComponentLink2Description: Datasheet; ComponentLink2URL: http://www.ti.com/lit/ds/symlink/cd74hc4515.pdf; ComponentLink3Description: Package Specification; ComponentLink3URL: http://www.ti.com/lit/ml/mpdi004a/mpdi004a.pdf
footprint NT0024A (DIP, 24-Leads, Body 32.05x7.1mm, Pitch 2.54mm)
pins: 1 ~{LE} (in), 2 A0 (in), 3 A1 (in), 4 ~{Y7} (out), 5 ~{Y6} (out), 6 ~{Y5} (out), 7 ~{Y4} (out), 8 ~{Y3} (out), 9 ~{Y1} (out), 10 ~{Y2} (out), 11 ~{Y0} (out), 12 GND (power), 13 ~{Y13} (out), 14 ~{Y12} (out), 15 ~{Y15} (out), 16 ~{Y14} (out), 17 ~{Y9} (out), 18 ~{Y8} (out), 19 ~{Y11} (out), 20 ~{Y10} (out), 21 A2 (in), 22 A3 (in), 23 ~{E} (in), 24 VCC (power)

## CD74HC4515M
designator U?
High Speed CMOS Logic 4-to-16 Line Decoder/Demultiplexer with Input Latches, DW0024A, TUBE; Generic Part Number: CD74HC4515; Manufacturer: Texas Instruments; PartNumber: CD74HC4515M; VCC(Min)(V): 2; VCC(Max)(V): 6; ICC @ Nom Voltage(Max)(mA): 0.08; Input Type: LVTTL/CMOS; Bits(#): 16; F @ Nom Voltage(Max)(Mhz): 28; Configuration: 4：16; Channels(#): 1; Rating: Catalog; Technology Family: HC; Voltage(Nom)(V): 3.3,5; Schmitt Trigger: No; Output Drive (IOL/IOH)(Max)(mA): 5.2/-5.2; tpd @ Nom Voltage(Max)(ns): 23; DatasheetVersion: SCHS280C; PackageReference: DW0024A; Supplier 1: Mouser; Supplier Part Number 1: 595-CD74HC4515M; Supplier 2: Digi-Key; Supplier Part Number 2: 296-9233-5-ND; Output Type: CMOS; Function: Decoder/Demultiplexer; Operating Temperature Range(C): -55 to 125; Type: Standard; Code_JEDEC: MS-013; ComponentLink1Description: Manufacturer URL; ComponentLink1URL: http://www.ti.com/; ComponentLink2Description: Datasheet; ComponentLink2URL: http://www.ti.com/lit/ds/symlink/cd74hc4515.pdf; ComponentLink3Description: Package Specification; ComponentLink3URL: http://www.ti.com/lit/ml/mpds174a/mpds174a.pdf
footprint DW0024A_N (SOIC, 24-Leads, Body 15.6x7.6mm, Pitch 1.27mm, IPC Medium Density)
footprint DW0024A_M (SOIC, 24-Leads, Body 15.6x7.6mm, Pitch 1.27mm, IPC Low Density)
footprint DW0024A_L (SOIC, 24-Leads, Body 15.6x7.6mm, Pitch 1.27mm, IPC High Density)
pins: 1 ~{LE} (in), 2 A0 (in), 3 A1 (in), 4 ~{Y7} (out), 5 ~{Y6} (out), 6 ~{Y5} (out), 7 ~{Y4} (out), 8 ~{Y3} (out), 9 ~{Y1} (out), 10 ~{Y2} (out), 11 ~{Y0} (out), 12 GND (power), 13 ~{Y13} (out), 14 ~{Y12} (out), 15 ~{Y15} (out), 16 ~{Y14} (out), 17 ~{Y9} (out), 18 ~{Y8} (out), 19 ~{Y11} (out), 20 ~{Y10} (out), 21 A2 (in), 22 A3 (in), 23 ~{E} (in), 24 VCC (power)

## CD74HC4515M96
designator U?
High Speed CMOS Logic 4-to-16 Line Decoder/Demultiplexer with Input Latches, DW0024A, LARGE T&R; Generic Part Number: CD74HC4515; Manufacturer: Texas Instruments; PartNumber: CD74HC4515M96; VCC(Min)(V): 2; VCC(Max)(V): 6; ICC @ Nom Voltage(Max)(mA): 0.08; Input Type: LVTTL/CMOS; Bits(#): 16; F @ Nom Voltage(Max)(Mhz): 28; Configuration: 4：16; Channels(#): 1; Rating: Catalog; Technology Family: HC; Voltage(Nom)(V): 3.3,5; Schmitt Trigger: No; Output Drive (IOL/IOH)(Max)(mA): 5.2/-5.2; tpd @ Nom Voltage(Max)(ns): 23; DatasheetVersion: SCHS280C; PackageReference: DW0024A; Supplier 1: Mouser; Supplier Part Number 1: 595-CD74HC4515M96; Supplier 2: Digi-Key; Supplier Part Number 2: 296-24356-2-ND; Supplier 3: Digi-Key; Supplier Part Number 3: 296-24356-1-ND; Supplier 4: Digi-Key; Supplier Part Number 4: 296-24356-6-ND; Output Type: CMOS; Function: Decoder/Demultiplexer; Operating Temperature Range(C): -55 to 125; Type: Standard; Code_JEDEC: MS-013; ComponentLink1Description: Manufacturer URL; ComponentLink1URL: http://www.ti.com/; ComponentLink2Description: Datasheet; ComponentLink2URL: http://www.ti.com/lit/ds/symlink/cd74hc4515.pdf; ComponentLink3Description: Package Specification; ComponentLink3URL: http://www.ti.com/lit/ml/mpds174a/mpds174a.pdf
footprint DW0024A_N (SOIC, 24-Leads, Body 15.6x7.6mm, Pitch 1.27mm, IPC Medium Density)
footprint DW0024A_M (SOIC, 24-Leads, Body 15.6x7.6mm, Pitch 1.27mm, IPC Low Density)
footprint DW0024A_L (SOIC, 24-Leads, Body 15.6x7.6mm, Pitch 1.27mm, IPC High Density)
pins: 1 ~{LE} (in), 2 A0 (in), 3 A1 (in), 4 ~{Y7} (out), 5 ~{Y6} (out), 6 ~{Y5} (out), 7 ~{Y4} (out), 8 ~{Y3} (out), 9 ~{Y1} (out), 10 ~{Y2} (out), 11 ~{Y0} (out), 12 GND (power), 13 ~{Y13} (out), 14 ~{Y12} (out), 15 ~{Y15} (out), 16 ~{Y14} (out), 17 ~{Y9} (out), 18 ~{Y8} (out), 19 ~{Y11} (out), 20 ~{Y10} (out), 21 A2 (in), 22 A3 (in), 23 ~{E} (in), 24 VCC (power)

## CD74HC4518E
designator U?
High Speed CMOS Logic Dual BCD Up-Counter, N0016A, TUBE; Generic Part Number: CD74HC4518; Manufacturer: Texas Instruments; PartNumber: CD74HC4518E; VCC(Min)(V): 2; VCC(Max)(V): 6; Inputs: 1; ICC @ Nom Voltage(Max)(mA): 0.08; Input Type: LVTTL/CMOS; Bits(#): 4; F @ Nom Voltage(Max)(Mhz): 28; Rating: Catalog; Technology Family: HC; Voltage(Nom)(V): 3.3,5; Schmitt Trigger: No; Output Drive (IOL/IOH)(Max)(mA): 5.2/-5.2; tpd @ Nom Voltage(Max)(ns): 51; DatasheetVersion: SCHS216D; PackageReference: N0016A; Supplier 1: Mouser; Supplier Part Number 1: 595-CD74HC4518E; Supplier 2: Digi-Key; Supplier Part Number 2: 296-33102-5-ND; Output Type: CMOS; Function: Counter; Operating Temperature Range(C): -55 to 125; Type: Other; Code_JEDEC: MS-001; ComponentLink1Description: Manufacturer URL; ComponentLink1URL: http://www.ti.com/; ComponentLink2Description: Datasheet; ComponentLink2URL: http://www.ti.com/lit/ds/symlink/cd74hc4518.pdf; ComponentLink3Description: Package Specification; ComponentLink3URL: http://www.ti.com/lit/ml/mpdi002c/mpdi002c.pdf
footprint N0016A (DIP, 16-Leads, Body 19.7x6.6mm, Pitch 2.54mm)
part A pins: 1 1CP (in), 2 1E (in), 3 1Q0 (out), 4 1Q1 (out), 5 1Q2 (out), 6 1Q3 (out), 7 1MR (in)
part B pins: 9 2CP (in), 10 2E (in), 11 2Q0 (out), 12 2Q1 (out), 13 2Q2 (out), 14 2Q3 (out), 15 2MR (in)
part C pins: 8 GND (power), 16 VCC (power)

## CD74HC4520E
designator U?
High Speed CMOS Logic Dual Binary Up-Counters, N0016A, TUBE; Generic Part Number: CD74HC4520; Manufacturer: Texas Instruments; PartNumber: CD74HC4520E; VCC(Min)(V): 2; VCC(Max)(V): 6; Inputs: 1; ICC @ Nom Voltage(Max)(mA): 0.08; Bits(#): 4; F @ Nom Voltage(Max)(Mhz): 28; Rating: Military; Technology Family: HC; Output Drive (IOL/IOH)(Max)(mA): 5.2/-5.2; tpd @ Nom Voltage(Max)(ns): 51; DatasheetVersion: SCHS216D; PackageReference: N0016A; Supplier 1: Mouser; Supplier Part Number 1: 595-CD74HC4520E; Supplier 2: Digi-Key; Supplier Part Number 2: 296-26005-5-ND; Function: Counter; Operating Temperature Range(C): -55 to 125; Type: Binary; Voltage(Nom)(V): 6; Code_JEDEC: MS-001; ComponentLink1Description: Manufacturer URL; ComponentLink1URL: http://www.ti.com/; ComponentLink2Description: Datasheet; ComponentLink2URL: http://www.ti.com/lit/ds/symlink/cd74hc4520.pdf; ComponentLink3Description: Package Specification; ComponentLink3URL: http://www.ti.com/lit/ml/mpdi002c/mpdi002c.pdf
footprint N0016A (DIP, 16-Leads, Body 19.7x6.6mm, Pitch 2.54mm)
part A pins: 1 1CP (in), 2 1E (in), 3 1Q0 (out), 4 1Q1 (out), 5 1Q2 (out), 6 1Q3 (out), 7 1MR (in)
part B pins: 9 2CP (in), 10 2E (in), 11 2Q0 (out), 12 2Q1 (out), 13 2Q2 (out), 14 2Q3 (out), 15 2MR (in)
part C pins: 8 GND (power), 16 VCC (power)

## CD74HC4520M
designator U?
High Speed CMOS Logic Dual Binary Up-Counters, D0016A, TUBE; Generic Part Number: CD74HC4520; Manufacturer: Texas Instruments; PartNumber: CD74HC4520M; VCC(Min)(V): 2; VCC(Max)(V): 6; Inputs: 1; ICC @ Nom Voltage(Max)(mA): 0.08; Bits(#): 4; F @ Nom Voltage(Max)(Mhz): 28; Rating: Military; Technology Family: HC; Output Drive (IOL/IOH)(Max)(mA): 5.2/-5.2; tpd @ Nom Voltage(Max)(ns): 51; DatasheetVersion: SCHS216D; PackageReference: D0016A; Supplier 1: Mouser; Supplier Part Number 1: 595-CD74HC4520M; Supplier 2: Digi-Key; Supplier Part Number 2: 296-33103-5-ND; Function: Counter; Operating Temperature Range(C): -55 to 125; Type: Binary; Voltage(Nom)(V): 6; Code_JEDEC: MS-012 variation AC; ComponentLink1Description: Manufacturer URL; ComponentLink1URL: http://www.ti.com/; ComponentLink2Description: Datasheet; ComponentLink2URL: http://www.ti.com/lit/ds/symlink/cd74hc4520.pdf; ComponentLink3Description: Package Specification; ComponentLink3URL: http://www.ti.com/lit/ml/mpds178g/mpds178g.pdf
footprint D0016A_N (SOIC, 16-Leads, Body 10x4mm, Pitch 1.27mm, IPC Medium Density)
footprint D0016A_M (SOIC, 16-Leads, Body 10x4mm, Pitch 1.27mm, IPC Low Density)
footprint D0016A_L (SOIC, 16-Leads, Body 10x4mm, Pitch 1.27mm, IPC High Density)
part A pins: 1 1CP (in), 2 1E (in), 3 1Q0 (out), 4 1Q1 (out), 5 1Q2 (out), 6 1Q3 (out), 7 1MR (in)
part B pins: 9 2CP (in), 10 2E (in), 11 2Q0 (out), 12 2Q1 (out), 13 2Q2 (out), 14 2Q3 (out), 15 2MR (in)
part C pins: 8 GND (power), 16 VCC (power)

## CD74HC4520M96
designator U?
High Speed CMOS Logic Dual Binary Up-Counters, D0016A, LARGE T&R; Generic Part Number: CD74HC4520; Manufacturer: Texas Instruments; PartNumber: CD74HC4520M96; VCC(Min)(V): 2; VCC(Max)(V): 6; Inputs: 1; ICC @ Nom Voltage(Max)(mA): 0.08; Bits(#): 4; F @ Nom Voltage(Max)(Mhz): 28; Rating: Military; Technology Family: HC; Output Drive (IOL/IOH)(Max)(mA): 5.2/-5.2; tpd @ Nom Voltage(Max)(ns): 51; DatasheetVersion: SCHS216D; PackageReference: D0016A; Supplier 1: Mouser; Supplier Part Number 1: 595-CD74HC4520M96; Supplier 2: Digi-Key; Supplier Part Number 2: 296-31598-2-ND; Supplier 3: Digi-Key; Supplier Part Number 3: 296-31598-1-ND; Supplier 4: Digi-Key; Supplier Part Number 4: 296-31598-6-ND; Function: Counter; Operating Temperature Range(C): -55 to 125; Type: Binary; Voltage(Nom)(V): 6; Code_JEDEC: MS-012 variation AC; ComponentLink1Description: Manufacturer URL; ComponentLink1URL: http://www.ti.com/; ComponentLink2Description: Datasheet; ComponentLink2URL: http://www.ti.com/lit/ds/symlink/cd74hc4520.pdf; ComponentLink3Description: Package Specification; ComponentLink3URL: http://www.ti.com/lit/ml/mpds178g/mpds178g.pdf
footprint D0016A_N (SOIC, 16-Leads, Body 10x4mm, Pitch 1.27mm, IPC Medium Density)
footprint D0016A_M (SOIC, 16-Leads, Body 10x4mm, Pitch 1.27mm, IPC Low Density)
footprint D0016A_L (SOIC, 16-Leads, Body 10x4mm, Pitch 1.27mm, IPC High Density)
part A pins: 1 1CP (in), 2 1E (in), 3 1Q0 (out), 4 1Q1 (out), 5 1Q2 (out), 6 1Q3 (out), 7 1MR (in)
part B pins: 9 2CP (in), 10 2E (in), 11 2Q0 (out), 12 2Q1 (out), 13 2Q2 (out), 14 2Q3 (out), 15 2MR (in)
part C pins: 8 GND (power), 16 VCC (power)

## CD74HC4520MT
designator U?
High Speed CMOS Logic Dual Binary Up-Counters, D0016A, SMALL T&R; Generic Part Number: CD74HC4520; Manufacturer: Texas Instruments; PartNumber: CD74HC4520MT; VCC(Min)(V): 2; VCC(Max)(V): 6; Inputs: 1; ICC @ Nom Voltage(Max)(mA): 0.08; Bits(#): 4; F @ Nom Voltage(Max)(Mhz): 28; Rating: Military; Technology Family: HC; Output Drive (IOL/IOH)(Max)(mA): 5.2/-5.2; tpd @ Nom Voltage(Max)(ns): 51; DatasheetVersion: SCHS216D; PackageReference: D0016A; Supplier 1: Mouser; Supplier Part Number 1: 595-CD74HC4520MT; Supplier 2: Digi-Key; Supplier Part Number 2: CD74HC4520MT-ND; Function: Counter; Operating Temperature Range(C): -55 to 125; Type: Binary; Voltage(Nom)(V): 6; Code_JEDEC: MS-012 variation AC; ComponentLink1Description: Manufacturer URL; ComponentLink1URL: http://www.ti.com/; ComponentLink2Description: Datasheet; ComponentLink2URL: http://www.ti.com/lit/ds/symlink/cd74hc4520.pdf; ComponentLink3Description: Package Specification; ComponentLink3URL: http://www.ti.com/lit/ml/mpds178g/mpds178g.pdf
footprint D0016A_N (SOIC, 16-Leads, Body 10x4mm, Pitch 1.27mm, IPC Medium Density)
footprint D0016A_M (SOIC, 16-Leads, Body 10x4mm, Pitch 1.27mm, IPC Low Density)
footprint D0016A_L (SOIC, 16-Leads, Body 10x4mm, Pitch 1.27mm, IPC High Density)
part A pins: 1 1CP (in), 2 1E (in), 3 1Q0 (out), 4 1Q1 (out), 5 1Q2 (out), 6 1Q3 (out), 7 1MR (in)
part B pins: 9 2CP (in), 10 2E (in), 11 2Q0 (out), 12 2Q1 (out), 13 2Q2 (out), 14 2Q3 (out), 15 2MR (in)
part C pins: 8 GND (power), 16 VCC (power)

## CD74HC4538E
designator U?
High Speed CMOS Logic Dual Retriggerable Precision Monostable Multivibrators, N0016A, TUBE; Generic Part Number: CD74HC4538; Manufacturer: Texas Instruments; PartNumber: CD74HC4538E; VCC(Min)(V): 2; VCC(Max)(V): 6; ICC @ Nom Voltage(Max)(mA): 0.08; Input Type: LVTTL/CMOS; F @ Nom Voltage(Max)(Mhz): 70; Rating: Catalog; Technology Family: HC; Voltage(Nom)(V): 3.3,5; Schmitt Trigger: No; Output Drive (IOL/IOH)(Max)(mA): 5.2/-5.2; tpd @ Nom Voltage(Max)(ns): 54; DatasheetVersion: SCHS123E; PackageReference: N0016A; Supplier 1: Mouser; Supplier Part Number 1: 595-CD74HC4538E; Supplier 2: Digi-Key; Supplier Part Number 2: 296-12811-5-ND; Output Type: CMOS; Bits(#): 2; Operating Temperature Range(C): -55 to 125; Code_JEDEC: MS-001; ComponentLink1Description: Manufacturer URL; ComponentLink1URL: http://www.ti.com/; ComponentLink2Description: Datasheet; ComponentLink2URL: http://www.ti.com/lit/ds/symlink/cd74hc4538.pdf; ComponentLink3Description: Package Specification; ComponentLink3URL: http://www.ti.com/lit/ml/mpdi002c/mpdi002c.pdf
footprint N0016A (DIP, 16-Leads, Body 19.7x6.6mm, Pitch 2.54mm)
part A pins: 1 1CX, 2 1RXCX, 3 ~{1R} (in), 4 1A (in), 5 ~{1B} (in), 6 1Q (out), 7 ~{1Q} (out)
part B pins: 9 ~{2Q} (out), 10 2Q (out), 11 ~{2B} (in), 12 2A (in), 13 ~{2R} (in), 14 2RXCX, 15 2CX
part C pins: 8 GND (power), 16 VCC (power)

## CD74HC4538M
designator U?
High Speed CMOS Logic Dual Retriggerable Precision Monostable Multivibrators, D0016A, TUBE; Generic Part Number: CD74HC4538; Manufacturer: Texas Instruments; PartNumber: CD74HC4538M; VCC(Min)(V): 2; VCC(Max)(V): 6; ICC @ Nom Voltage(Max)(mA): 0.08; Input Type: LVTTL/CMOS; F @ Nom Voltage(Max)(Mhz): 70; Rating: Catalog; Technology Family: HC; Voltage(Nom)(V): 3.3,5; Schmitt Trigger: No; Output Drive (IOL/IOH)(Max)(mA): 5.2/-5.2; tpd @ Nom Voltage(Max)(ns): 54; DatasheetVersion: SCHS123E; PackageReference: D0016A; Supplier 1: Mouser; Supplier Part Number 1: 595-CD74HC4538M; Supplier 2: Digi-Key; Supplier Part Number 2: 296-9234-5-ND; Output Type: CMOS; Bits(#): 2; Operating Temperature Range(C): -55 to 125; Code_JEDEC: MS-012 variation AC; ComponentLink1Description: Manufacturer URL; ComponentLink1URL: http://www.ti.com/; ComponentLink2Description: Datasheet; ComponentLink2URL: http://www.ti.com/lit/ds/symlink/cd74hc4538.pdf; ComponentLink3Description: Package Specification; ComponentLink3URL: http://www.ti.com/lit/ml/mpds178g/mpds178g.pdf
footprint D0016A_N (SOIC, 16-Leads, Body 10x4mm, Pitch 1.27mm, IPC Medium Density)
footprint D0016A_M (SOIC, 16-Leads, Body 10x4mm, Pitch 1.27mm, IPC Low Density)
footprint D0016A_L (SOIC, 16-Leads, Body 10x4mm, Pitch 1.27mm, IPC High Density)
part A pins: 1 1CX, 2 1RXCX, 3 ~{1R} (in), 4 1A (in), 5 ~{1B} (in), 6 1Q (out), 7 ~{1Q} (out)
part B pins: 9 ~{2Q} (out), 10 2Q (out), 11 ~{2B} (in), 12 2A (in), 13 ~{2R} (in), 14 2RXCX, 15 2CX
part C pins: 8 GND (power), 16 VCC (power)

## CD74HC4538M96
designator U?
High Speed CMOS Logic Dual Retriggerable Precision Monostable Multivibrators, D0016A, LARGE T&R; Generic Part Number: CD74HC4538; Manufacturer: Texas Instruments; PartNumber: CD74HC4538M96; VCC(Min)(V): 2; VCC(Max)(V): 6; ICC @ Nom Voltage(Max)(mA): 0.08; Input Type: LVTTL/CMOS; F @ Nom Voltage(Max)(Mhz): 70; Rating: Catalog; Technology Family: HC; Voltage(Nom)(V): 3.3,5; Schmitt Trigger: No; Output Drive (IOL/IOH)(Max)(mA): 5.2/-5.2; tpd @ Nom Voltage(Max)(ns): 54; DatasheetVersion: SCHS123E; PackageReference: D0016A; Supplier 1: Mouser; Supplier Part Number 1: 595-CD74HC4538M96; Supplier 2: Digi-Key; Supplier Part Number 2: 296-26006-2-ND; Supplier 3: Digi-Key; Supplier Part Number 3: 296-26006-1-ND; Supplier 4: Digi-Key; Supplier Part Number 4: 296-26006-6-ND; Output Type: CMOS; Bits(#): 2; Operating Temperature Range(C): -55 to 125; Code_JEDEC: MS-012 variation AC; ComponentLink1Description: Manufacturer URL; ComponentLink1URL: http://www.ti.com/; ComponentLink2Description: Datasheet; ComponentLink2URL: http://www.ti.com/lit/ds/symlink/cd74hc4538.pdf; ComponentLink3Description: Package Specification; ComponentLink3URL: http://www.ti.com/lit/ml/mpds178g/mpds178g.pdf
footprint D0016A_N (SOIC, 16-Leads, Body 10x4mm, Pitch 1.27mm, IPC Medium Density)
footprint D0016A_M (SOIC, 16-Leads, Body 10x4mm, Pitch 1.27mm, IPC Low Density)
footprint D0016A_L (SOIC, 16-Leads, Body 10x4mm, Pitch 1.27mm, IPC High Density)
part A pins: 1 1CX, 2 1RXCX, 3 ~{1R} (in), 4 1A (in), 5 ~{1B} (in), 6 1Q (out), 7 ~{1Q} (out)
part B pins: 9 ~{2Q} (out), 10 2Q (out), 11 ~{2B} (in), 12 2A (in), 13 ~{2R} (in), 14 2RXCX, 15 2CX
part C pins: 8 GND (power), 16 VCC (power)

## CD74HC4538MT
designator U?
High Speed CMOS Logic Dual Retriggerable Precision Monostable Multivibrators, D0016A, SMALL T&R; Generic Part Number: CD74HC4538; Manufacturer: Texas Instruments; PartNumber: CD74HC4538MT; VCC(Min)(V): 2; VCC(Max)(V): 6; ICC @ Nom Voltage(Max)(mA): 0.08; Input Type: LVTTL/CMOS; F @ Nom Voltage(Max)(Mhz): 70; Rating: Catalog; Technology Family: HC; Voltage(Nom)(V): 3.3,5; Schmitt Trigger: No; Output Drive (IOL/IOH)(Max)(mA): 5.2/-5.2; tpd @ Nom Voltage(Max)(ns): 54; DatasheetVersion: SCHS123E; PackageReference: D0016A; Supplier 1: Mouser; Supplier Part Number 1: 595-CD74HC4538MT; Supplier 2: Digi-Key; Supplier Part Number 2: CD74HC4538MT-ND; Output Type: CMOS; Bits(#): 2; Operating Temperature Range(C): -55 to 125; Code_JEDEC: MS-012 variation AC; ComponentLink1Description: Manufacturer URL; ComponentLink1URL: http://www.ti.com/; ComponentLink2Description: Datasheet; ComponentLink2URL: http://www.ti.com/lit/ds/symlink/cd74hc4538.pdf; ComponentLink3Description: Package Specification; ComponentLink3URL: http://www.ti.com/lit/ml/mpds178g/mpds178g.pdf
footprint D0016A_N (SOIC, 16-Leads, Body 10x4mm, Pitch 1.27mm, IPC Medium Density)
footprint D0016A_M (SOIC, 16-Leads, Body 10x4mm, Pitch 1.27mm, IPC Low Density)
footprint D0016A_L (SOIC, 16-Leads, Body 10x4mm, Pitch 1.27mm, IPC High Density)
part A pins: 1 1CX, 2 1RXCX, 3 ~{1R} (in), 4 1A (in), 5 ~{1B} (in), 6 1Q (out), 7 ~{1Q} (out)
part B pins: 9 ~{2Q} (out), 10 2Q (out), 11 ~{2B} (in), 12 2A (in), 13 ~{2R} (in), 14 2RXCX, 15 2CX
part C pins: 8 GND (power), 16 VCC (power)

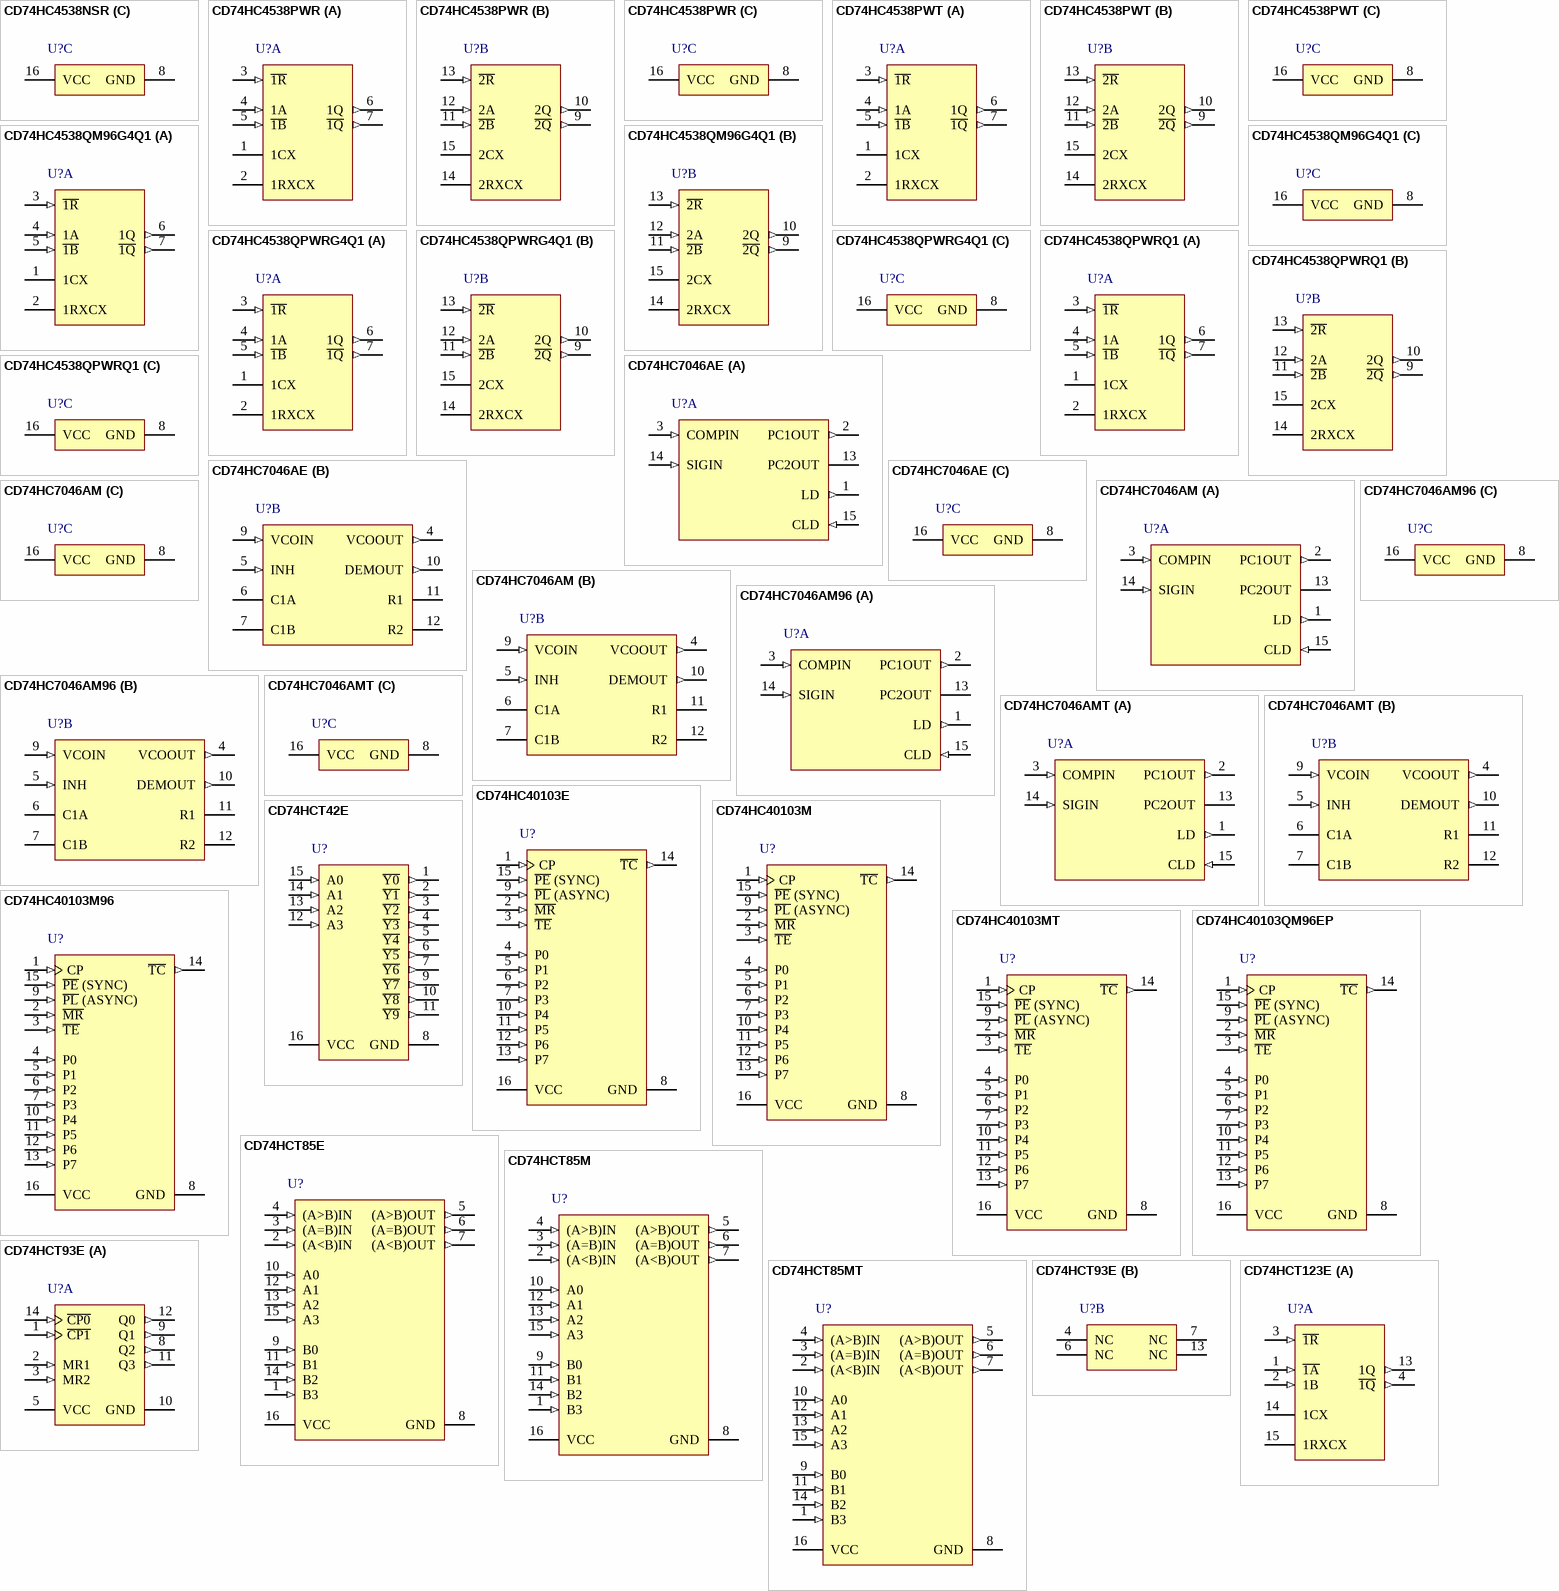
[diagram p17: symbols CD74HC4538NSR to CD74HCT123E]

## CD74HC4538NSR
designator U?
High Speed CMOS Logic Dual Retriggerable Precision Monostable Multivibrators, NS0016A, LARGE T&R; Generic Part Number: CD74HC4538; Manufacturer: Texas Instruments; PartNumber: CD74HC4538NSR; VCC(Min)(V): 2; VCC(Max)(V): 6; ICC @ Nom Voltage(Max)(mA): 0.08; Input Type: LVTTL/CMOS; F @ Nom Voltage(Max)(Mhz): 70; Rating: Catalog; Technology Family: HC; Voltage(Nom)(V): 3.3,5; Schmitt Trigger: No; Output Drive (IOL/IOH)(Max)(mA): 5.2/-5.2; tpd @ Nom Voltage(Max)(ns): 54; DatasheetVersion: SCHS123E; PackageReference: NS0016A; Supplier 1: Mouser; Supplier Part Number 1: 595-CD74HC4538NSR; Supplier 2: Digi-Key; Supplier Part Number 2: 296-41227-2-ND; Supplier 3: Digi-Key; Supplier Part Number 3: 296-41227-1-ND; Supplier 4: Digi-Key; Supplier Part Number 4: 296-41227-6-ND; Output Type: CMOS; Bits(#): 2; Operating Temperature Range(C): -55 to 125; ComponentLink1Description: Manufacturer URL; ComponentLink1URL: http://www.ti.com/; ComponentLink2Description: Datasheet; ComponentLink2URL: http://www.ti.com/lit/ds/symlink/cd74hc4538.pdf; ComponentLink3Description: Package Specification; ComponentLink3URL: http://www.ti.com/lit/ml/msop002a/msop002a.pdf
footprint NS0016A_N (SOIC,16-Leads,Body 10.5x5.6mm,Pitch 1.27mm,IPC Medium Density)
footprint NS0016A_M (SOIC,16-Leads,Body 10.5x5.6mm,Pitch 1.27mm,IPC Low Density)
footprint NS0016A_L (SOIC,16-Leads,Body 10.5x5.6mm,Pitch 1.27mm,IPC High Density)
part A pins: 1 1CX, 2 1RXCX, 3 ~{1R} (in), 4 1A (in), 5 ~{1B} (in), 6 1Q (out), 7 ~{1Q} (out)
part B pins: 9 ~{2Q} (out), 10 2Q (out), 11 ~{2B} (in), 12 2A (in), 13 ~{2R} (in), 14 2RXCX, 15 2CX
part C pins: 8 GND (power), 16 VCC (power)